# Altium schematic symbol library JFET.Schlib: 2 symbols
Pins are listed as number, name and electrical type; pins without a type are passive.

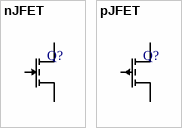
[diagram p0: symbols nJFET to pJFET]

## nJFET
designator Q?
pins: 1 G, 2 S, 3 D

## pJFET
designator Q?
pins: 1 G, 2 S, 3 D